# EAGLE library part SIM8OOL (library SIM8OOL)
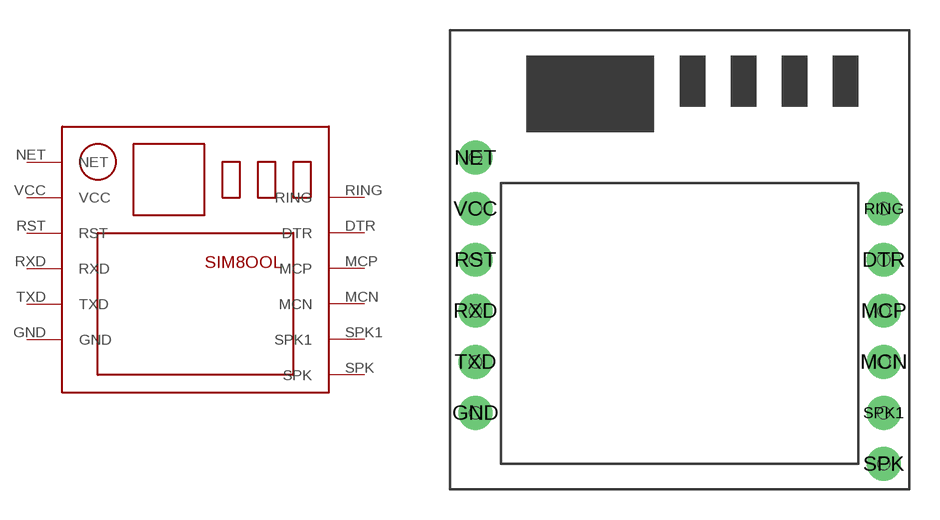
[diagram p0: symbol with the pads of SIM8OOL; footprint SIM8OOL]

Designator prefix -

## SIM8OOL  [SIM8OOL]
DTR  DTR
GND  GND
MCN  MCN
MCP  MCP
NET  NET
RING  RING
RST  RST
RXD  RXD
SPK  SPK
SPK1  SPK1
TXD  TXD
VCC  VCC

## Footprint SIM8OOL (pad centres in mm)
drill 0.8 pad 1.676: DTR 2.54,1.27; GND -17.78,-6.35; MCN 2.54,-3.81; MCP 2.54,-1.27; NET -17.78,6.35; RING 2.54,3.81; RST -17.78,1.27; RXD -17.78,-1.27; SPK 2.54,-8.89; SPK1 2.54,-6.35; TXD -17.78,-3.81; VCC -17.78,3.81
hole 0.6 at -17.78,6.35
hole 0.6 at -17.78,3.81
hole 0.6 at -17.78,1.27
hole 0.6 at -17.78,-1.27
hole 0.6 at -17.78,-3.81
hole 0.6 at -17.78,-6.35
hole 0.6 at 2.54,3.81
hole 0.6 at 2.54,1.27
hole 0.6 at 2.54,-1.27
hole 0.6 at 2.54,-3.81
hole 0.6 at 2.54,-6.35
hole 0.6 at 2.54,-8.89